# EAGLE library part FLEX_CONN_16_PINS (library NM_Visual_Cortex_12-10-18)
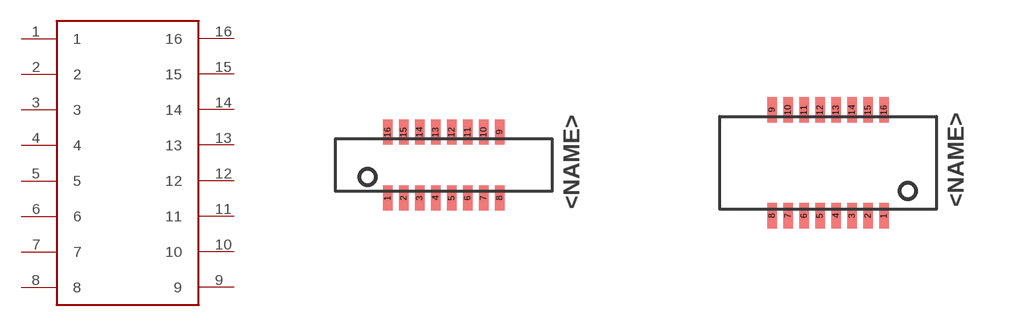
[diagram p6: symbol with the pads of DF37CJ-16DP-0.4V_MALE; footprints DF37CJ-16DP-0.4V_MALE, DF37CJ-16DS-0.4V_FEMALE]

Designator prefix -

## FLEX_CONN_16_PINSMALE  [DF37CJ-16DP-0.4V_MALE]
1  1
2  2
3  3
4  4
5  5
6  6
7  7
8  8
9  9
10  10
11  11
12  12
13  13
14  14
15  15
16  16

## FLEX_CONN_16_PINSFEMALE  [DF37CJ-16DS-0.4V_FEMALE]
Pads as for DF37CJ-16DP-0.4V_MALE

## Footprint DF37CJ-16DP-0.4V_MALE (pad centres in mm)
smd 0.23 x 0.63: 1 -1.4,-0.825; 2 -1,-0.825; 3 -0.6,-0.825; 4 -0.2,-0.825; 5 0.2,-0.825; 6 0.6,-0.825; 7 1,-0.825; 8 1.4,-0.825; 9 1.4,0.825; 10 1,0.825; 11 0.6,0.825; 12 0.2,0.825; 13 -0.2,0.825; 14 -0.6,0.825; 15 -1,0.825; 16 -1.4,0.825

## Footprint DF37CJ-16DS-0.4V_FEMALE (pad centres in mm)
smd 0.23 x 0.63: 1 1.4,-1.325; 2 1,-1.325; 3 0.6,-1.325; 4 0.2,-1.325; 5 -0.2,-1.325; 6 -0.6,-1.325; 7 -1,-1.325; 8 -1.4,-1.325; 9 -1.4,1.325; 10 -1,1.325; 11 -0.6,1.325; 12 -0.2,1.325; 13 0.2,1.325; 14 0.6,1.325; 15 1,1.325; 16 1.4,1.325